# Altium footprint library PCB_Lib.PcbLib: 296 footprints (part 17 of 19)
Each footprint in its own frame and in the unit in brackets; x right, y up, seen from the top. Pads: shape width x height; smd on the part's side, far side on the other; paste and mask are expansions set on the pad; w line width, h text height; cw(c..) or ccw(c..) is an arc to the next point about the centre after c.
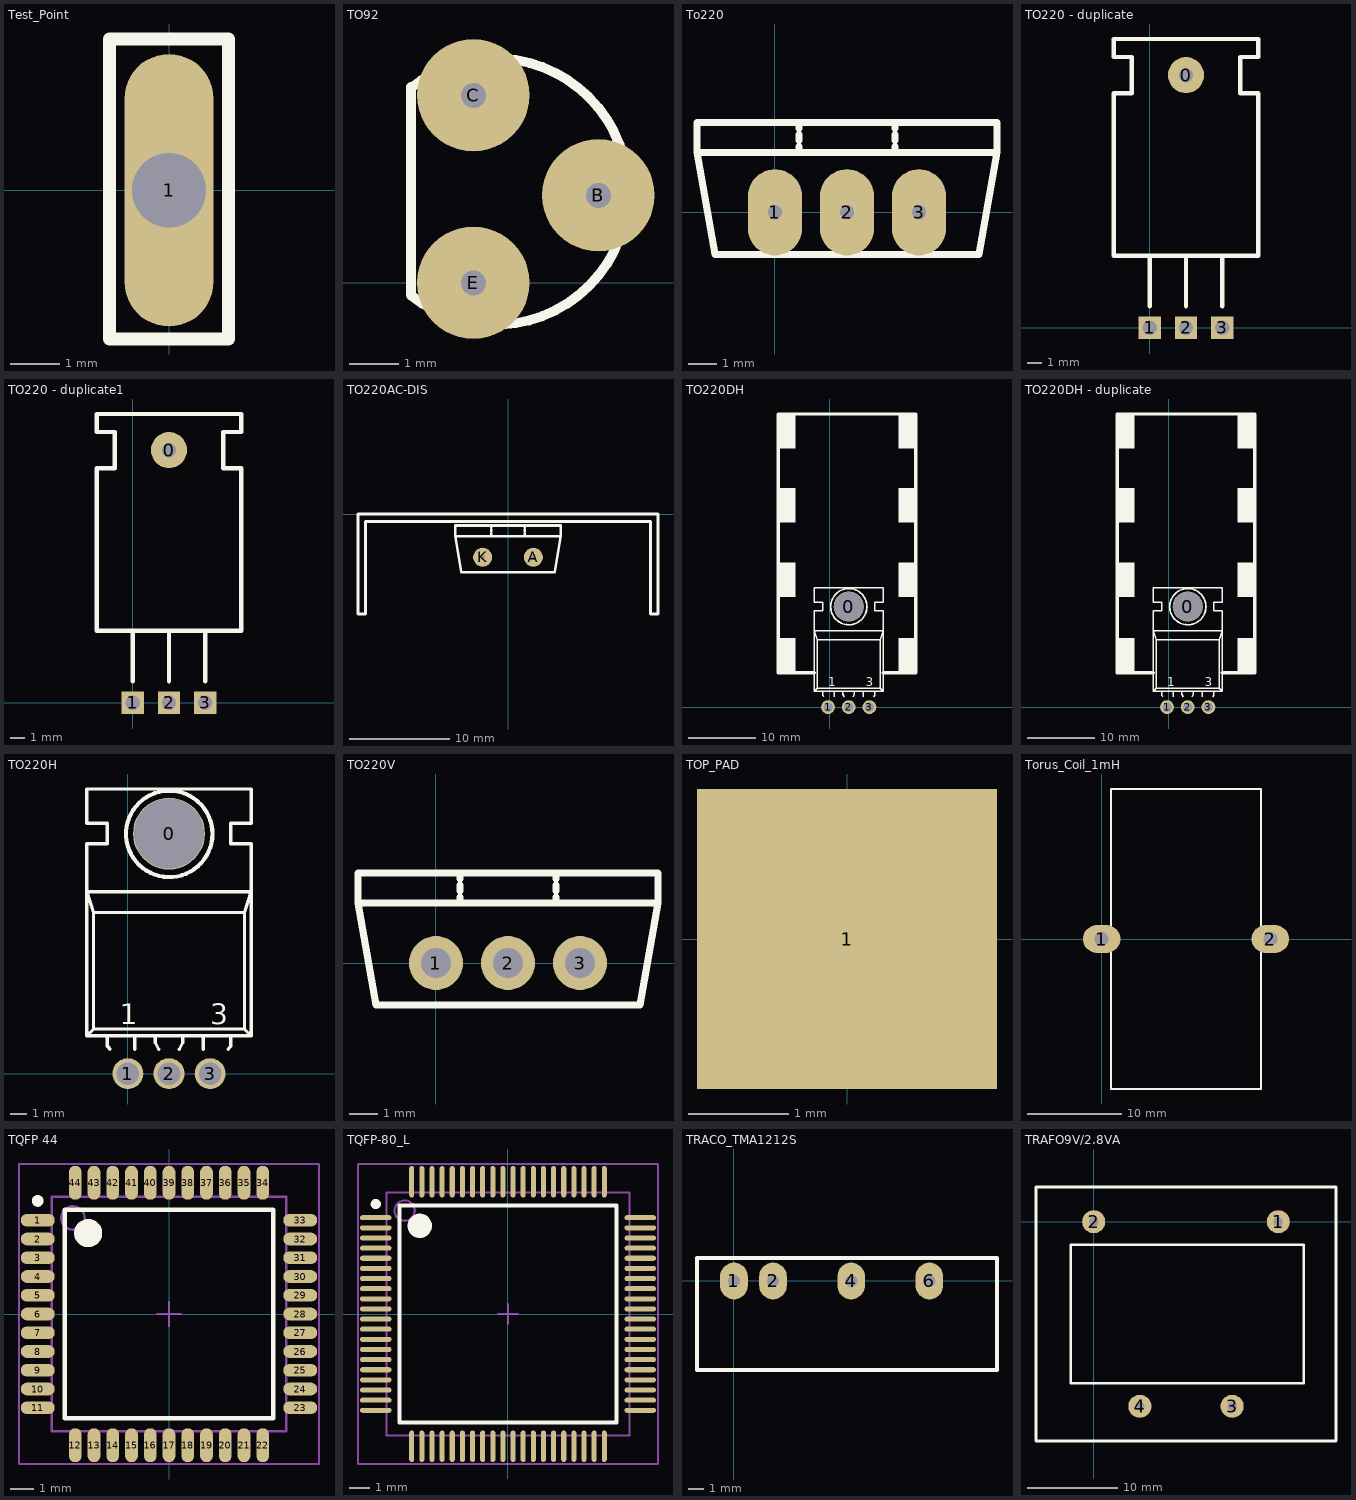
[diagram p16: the footprints below, top view; thin cyan lines are the x and y axes]

## Test_Point [mm]
height 10
pads (1):
  oval 1.8x5.5 hole 1.5: 1(0,0)
Top Overlay:
  lines w0.254: -1.2,-3 1.2,-3 1.2,3.051 -1.2,3.051 -1.2,-3

## TO92 [mil] "BC547 - BC557"
pads (3):
  round 90 hole 20: B(300,70) C(200,150) E(200,0)
Top Overlay:
  lines w7.87: 150,155.79 cw(c217.13,72.9) 150,-10 150,156.67

## To220 [mil] "To220"
pads (3):
  oval 75x120 hole 20: 1(0,0) 2(100,0) 3(200,0)
Top Overlay:
  lines w10: 33.33,83.33 33.33,91.67 ; 33.33,100 33.33,108.33 ; 33.33,116.67 33.33,125 ; 166.67,83.33 166.67,91.67 ; 166.67,100 166.67,108.33 ; 166.67,116.67 166.67,125 ; -108.33,83.33 -108.33,125 308.33,125 308.33,83.33 ; -108.33,83.33 -83.33,-58.33 283.33,-58.33 308.33,83.33 ; -108.33,83.33 308.33,83.33

## TO220 - duplicate [mil]
pads (4):
  round 100 hole 40: 0(100,700)
  rect 62x62 hole 40: 1(0,0) 2(100,0) 3(200,0)
Top Overlay:
  lines w12: 0,60 0,200 ; 100,60 100,200 ; 200,60 200,200 ; -100,200 -100,650 -50,650 -50,750 -100,750 -100,800 300,800 300,750 250,750 250,650 300,650 300,200 -100,200

## TO220 - duplicate1 [mil]
pads (4):
  round 100 hole 40: 0(100,700)
  rect 62x62 hole 40: 1(0,0) 2(100,0) 3(200,0)
Top Overlay:
  lines w12: 0,60 0,200 ; 100,60 100,200 ; 200,60 200,200 ; -100,200 -100,650 -50,650 -50,750 -100,750 -100,800 300,800 300,750 250,750 250,650 300,650 300,200 -100,200

## TO220AC-DIS [mil] "TO 220 con disipador"
pads (2):
  round 75 hole 20: A(100,-168.31) K(-100,-168.31)
Top Overlay:
  lines w10: -66.67,-84.97 -66.67,-76.64 ; -66.67,-68.31 -66.67,-59.97 ; -66.67,-51.64 -66.67,-43.31 ; 66.67,-84.97 66.67,-76.64 ; 66.67,-68.31 66.67,-59.97 ; 66.67,-51.64 66.67,-43.31 ; -208.33,-84.97 -208.33,-43.31 208.33,-43.31 208.33,-84.97 ; -208.33,-84.97 -183.33,-226.64 183.33,-226.64 208.33,-84.97 ; -208.33,-84.97 208.33,-84.97 ; -590.55,-391.73 -561.02,-391.73 -561.02,-352.36 -561.02,-27.56 561.02,-27.56 561.02,-391.73 590.55,-391.73 590.55,1.97 0,1.97 -590.55,1.97 -590.55,-391.73

## TO220DH [mil]
pads (4):
  round 175 hole 170: 0(110,583.33)
  round 80 hole 55: 1(-10,0) 2(110,0) 3(230,0)
Top Overlay:
  circle w10: c110.67,582.53 r105
  rectangle: 400,1500 500,1700
  rectangle: 400,1070 500,1270
  rectangle: 400,640 500,840
  rectangle: 400,200 500,400
  rectangle: -300,1500 -200,1700
  rectangle: -300,1070 -200,1270
  rectangle: -300,640 -200,840
  rectangle: -300,200 -200,400
  lines w7.87: -40,66.67 -40,91.67 ; -38.11,65.41 -33.58,59.05 ; 26.67,59.05 26.67,91.67 ; 76.67,91.67 76.67,75 85,59.05 ; 135,59.05 143.33,75 143.33,91.67 ; 193.33,59.05 193.33,91.67 ; 253.9,59.05 260.31,67.61 ; 260,66.67 260,91.67 ; -90,91.67 -90,558.33 -40,558.33 -40,608.33 -90,608.33 -90,691.67 310,691.67 310,608.33 260,608.33 260,558.33 310,558.33 310,91.67 ; -90,91.67 310,91.67 ; -90,91.67 -73.33,108.33 ; -73.33,108.33 -73.33,391.67 ; -73.33,108.33 293.33,108.33 ; -73.33,391.67 -90,441.67 310,441.67 293.33,391.67 ; -73.33,391.67 293.33,391.67 ; 293.33,108.33 293.33,391.67 ; 293.33,108.33 310,91.67
  lines w20: -90,200 -300,200 -300,1700 500,1700 500,200 310,200
  text "3" at 210,120 h50
  text "1" at -10,120 h50

## TO220DH - duplicate [mil]
pads (4):
  round 175 hole 170: 0(110,583.33)
  round 80 hole 55: 1(-10,0) 2(110,0) 3(230,0)
Top Overlay:
  circle w10: c110.67,582.53 r105
  rectangle: -300,200 -200,400
  rectangle: -300,640 -200,840
  rectangle: -300,1070 -200,1270
  rectangle: -300,1500 -200,1700
  rectangle: 400,200 500,400
  rectangle: 400,640 500,840
  rectangle: 400,1070 500,1270
  rectangle: 400,1500 500,1700
  lines w7.87: -40,66.67 -40,91.67 ; -38.11,65.41 -33.58,59.05 ; 26.67,59.05 26.67,91.67 ; 76.67,91.67 76.67,75 85,59.05 ; 135,59.05 143.33,75 143.33,91.67 ; 193.33,59.05 193.33,91.67 ; 253.9,59.05 260.31,67.61 ; 260,66.67 260,91.67 ; -90,91.67 -73.33,108.33 ; -90,91.67 310,91.67 ; -90,91.67 -90,558.33 -40,558.33 -40,608.33 -90,608.33 -90,691.67 310,691.67 310,608.33 260,608.33 260,558.33 310,558.33 310,91.67 ; -73.33,108.33 293.33,108.33 ; -73.33,108.33 -73.33,391.67 ; -73.33,391.67 293.33,391.67 ; -73.33,391.67 -90,441.67 310,441.67 293.33,391.67 ; 293.33,108.33 310,91.67 ; 293.33,108.33 293.33,391.67
  lines w20: -90,200 -300,200 -300,1700 500,1700 500,200 310,200
  text "1" at -10,120 h50
  text "3" at 210,120 h50

## TO220H [mil]
pads (4):
  round 175 hole 170: 0(100,583.33)
  round 75 hole 55: 1(0,0) 2(100,0) 3(200,0)
Top Overlay:
  circle w10: c100.67,582.53 r105
  lines w7.87: -50,66.67 -50,91.67 ; -48.11,65.41 -43.58,59.05 ; 16.67,59.05 16.67,91.67 ; 66.67,91.67 66.67,75 75,59.05 ; 125,59.05 133.33,75 133.33,91.67 ; 183.33,59.05 183.33,91.67 ; 243.9,59.05 250.31,67.61 ; 250,66.67 250,91.67 ; -100,91.67 -83.33,108.33 ; -100,91.67 300,91.67 ; -100,91.67 -100,558.33 -50,558.33 -50,608.33 -100,608.33 -100,691.67 300,691.67 300,608.33 250,608.33 250,558.33 300,558.33 300,91.67 ; -83.33,108.33 283.33,108.33 ; -83.33,108.33 -83.33,391.67 ; -83.33,391.67 283.33,391.67 ; -83.33,391.67 -100,441.67 300,441.67 283.33,391.67 ; 283.33,108.33 300,91.67 ; 283.33,108.33 283.33,391.67
  text "1" at -20,120 h50
  text "3" at 200,120 h50

## TO220V [mil]
pads (3):
  round 75 hole 42: 1(0,0) 2(100,0) 3(200,0)
Top Overlay:
  lines w10: 33.33,83.33 33.33,91.67 ; 33.33,100 33.33,108.33 ; 33.33,116.67 33.33,125 ; 166.67,83.33 166.67,91.67 ; 166.67,100 166.67,108.33 ; 166.67,116.67 166.67,125 ; -108.33,83.33 -108.33,125 308.33,125 308.33,83.33 ; -108.33,83.33 -83.33,-58.33 283.33,-58.33 308.33,83.33 ; -108.33,83.33 308.33,83.33

## TOP_PAD [mm]
pads (1):
  rect 3x3 smd: 1(0,0)

## Torus_Coil_1mH [mm]
pads (2):
  oval 4x3 hole 1.5: 1(0,0) 2(18,0)
Top Overlay:
  lines w0.254: 1,-16 17,-16 17,16 1,16 1,-16

## TQFP 44 [mm]
pads (44):
  oval 1.45x0.55 smd: 1(-5.6,4) 2(-5.6,3.2) 3(-5.6,2.4) 4(-5.6,1.6) 5(-5.6,0.8) 6(-5.6,0) 7(-5.6,-0.8) 8(-5.6,-1.6) 9(-5.6,-2.4) 10(-5.6,-3.2) 11(-5.6,-4) 23(5.6,-4) 24(5.6,-3.2) 25(5.6,-2.4) 26(5.6,-1.6) 27(5.6,-0.8) 28(5.6,0) 29(5.6,0.8) 30(5.6,1.6) 31(5.6,2.4) 32(5.6,3.2) 33(5.6,4)
  oval 0.55x1.45 smd: 12(-4,-5.6) 13(-3.2,-5.6) 14(-2.4,-5.6) 15(-1.6,-5.6) 16(-0.8,-5.6) 17(0,-5.6) 18(0.8,-5.6) 19(1.6,-5.6) 20(2.4,-5.6) 21(3.2,-5.6) 22(4,-5.6) 34(4,5.6) 35(3.2,5.6) 36(2.4,5.6) 37(1.6,5.6) 38(0.8,5.6) 39(0,5.6) 40(-0.8,5.6) 41(-1.6,5.6) 42(-2.4,5.6) 43(-3.2,5.6) 44(-4,5.6)
Top Overlay:
  circle w0.25: c-5.6,4.825 r0.125
  circle w0.6: c-3.45,3.45 r0.3
  lines w0.2: -4.45,-4.45 -4.45,4.45 4.45,4.45 4.45,-4.45 -4.45,-4.45
Mechanical 13:
  circle w0.1: c-4.1,4.1 r0.5
  lines w0.1: -5,-5 -5,5 5,5 5,-5 -5,-5
Mechanical 15:
  lines w0.1: -0.5,0 0.5,0 ; 0,-0.5 0,0.5 ; -6.4,-6.4 -6.4,6.4 6.4,6.4 6.4,-6.4 -6.4,-6.4
3D body: height 1.2, standoff 0, extent -5,-5 5,5

## TQFP-80_L [mm] "80-Pin Thin Plastic Quad Flat Pack 0.5 mm Pitch, 1.0/0.1 mm Lead Form, IPC High Density"
height 1.2
pads (80):
  oval 1.55x0.25 smd: 1(-6.525,4.75) 2(-6.525,4.25) 3(-6.525,3.75) 4(-6.525,3.25) 5(-6.525,2.75) 6(-6.525,2.25) 7(-6.525,1.75) 8(-6.525,1.25) 9(-6.525,0.75) 10(-6.525,0.25) 11(-6.525,-0.25) 12(-6.525,-0.75) 13(-6.525,-1.25) 14(-6.525,-1.75) 15(-6.525,-2.25) 16(-6.525,-2.75) 17(-6.525,-3.25) 18(-6.525,-3.75) 19(-6.525,-4.25) 20(-6.525,-4.75) 41(6.525,-4.75) 42(6.525,-4.25) 43(6.525,-3.75) 44(6.525,-3.25) 45(6.525,-2.75) 46(6.525,-2.25) 47(6.525,-1.75) 48(6.525,-1.25) 49(6.525,-0.75) 50(6.525,-0.25) 51(6.525,0.25) 52(6.525,0.75) 53(6.525,1.25) 54(6.525,1.75) 55(6.525,2.25) 56(6.525,2.75) 57(6.525,3.25) 58(6.525,3.75) 59(6.525,4.25) 60(6.525,4.75)
  oval 0.25x1.55 smd: 21(-4.75,-6.525) 22(-4.25,-6.525) 23(-3.75,-6.525) 24(-3.25,-6.525) 25(-2.75,-6.525) 26(-2.25,-6.525) 27(-1.75,-6.525) 28(-1.25,-6.525) 29(-0.75,-6.525) 30(-0.25,-6.525) 31(0.25,-6.525) 32(0.75,-6.525) 33(1.25,-6.525) 34(1.75,-6.525) 35(2.25,-6.525) 36(2.75,-6.525) 37(3.25,-6.525) 38(3.75,-6.525) 39(4.25,-6.525) 40(4.75,-6.525) 61(4.75,6.525) 62(4.25,6.525) 63(3.75,6.525) 64(3.25,6.525) 65(2.75,6.525) 66(2.25,6.525) 67(1.75,6.525) 68(1.25,6.525) 69(0.75,6.525) 70(0.25,6.525) 71(-0.25,6.525) 72(-0.75,6.525) 73(-1.25,6.525) 74(-1.75,6.525) 75(-2.25,6.525) 76(-2.75,6.525) 77(-3.25,6.525) 78(-3.75,6.525) 79(-4.25,6.525) 80(-4.75,6.525)
Top Overlay:
  circle w0.25: c-6.525,5.425 r0.125
  circle w0.6: c-4.35,4.35 r0.3
  lines w0.2: -5.35,-5.35 -5.35,5.35 5.35,5.35 5.35,-5.35 -5.35,-5.35
Mechanical 13:
  circle w0.1: c-5.1,5.1 r0.5
  lines w0.1: -6,-6 -6,6 6,6 6,-6 -6,-6
Mechanical 15:
  lines w0.1: -0.5,0 0.5,0 ; 0,-0.5 0,0.5 ; -7.4,-7.4 -7.4,7.4 7.4,7.4 7.4,-7.4 -7.4,-7.4
3D body: height 1.2, standoff 0, extent -6,-6 6,6

## TRACO_TMA1212S [mm]
pads (4):
  oval 1.8x2.4 hole 0.8: 1(0,0) 2(2.54,0) 4(7.62,0) 6(12.7,0)
Top Overlay:
  lines w0.254: -2.4,-5.8 -2.4,1.5 17.1,1.5 17.1,-5.8 -2.4,-5.8

## TRAFO9V/2.8VA [mil]
pads (4):
  round 100 hole 42: 1(800,0) 2(0,0) 3(600,-800) 4(200,-800)
Top Overlay:
  lines w10: -100,-700 910,-700 910,-100 -100,-100 -100,-700
  lines w12: -250,-950 -250,150 1050,150 1050,-950 930,-950 -250,-950